# EAGLE library part SN74LVC125A (library ICs)
SN74lVC125A Quad Tri-State Buffer
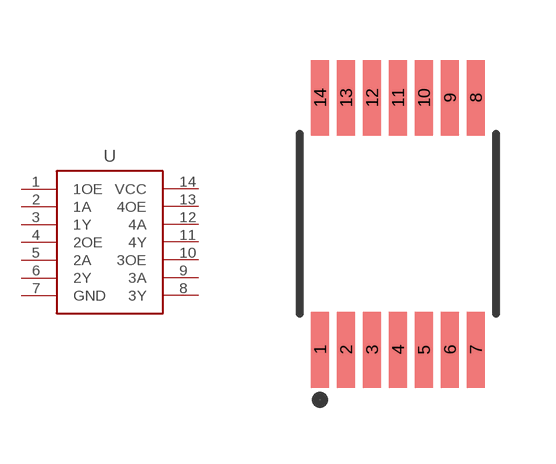
[diagram p12: symbol with the pads of TSSOP14; footprint TSSOP14]

Designator prefix U

## SN74LVC125A  [TSSOP14]
1  1OE  in
2  1A
3  1Y
4  2OE  in
5  2A
6  2Y
7  GND  pas
8  3Y
9  3A
10  3OE  in
11  4Y
12  4A
13  4OE  in
14  VCC

## Footprint TSSOP14 (pad centres in mm)
14-Lead Plastic Thin Shrink Small Outline (ST) - 4.4 mm Body TSSOP
smd 0.45 x 1.9: 1 -1.95,-3.15; 2 -1.3,-3.15; 3 -0.65,-3.15; 4 0,-3.15; 5 0.65,-3.15; 6 1.3,-3.15; 7 1.95,-3.15; 8 1.95,3.15; 9 1.3,3.15; 10 0.65,3.15; 11 0,3.15; 12 -0.65,3.15; 13 -1.3,3.15; 14 -1.95,3.15